# Altium footprint library PcbLib1.PcbLib: 11 footprints
Each footprint in its own frame and in the unit in brackets; x right, y up, seen from the top. Pads: shape width x height; smd on the part's side, far side on the other; paste and mask are expansions set on the pad; w line width, h text height; cw(c..) or ccw(c..) is an arc to the next point about the centre after c.
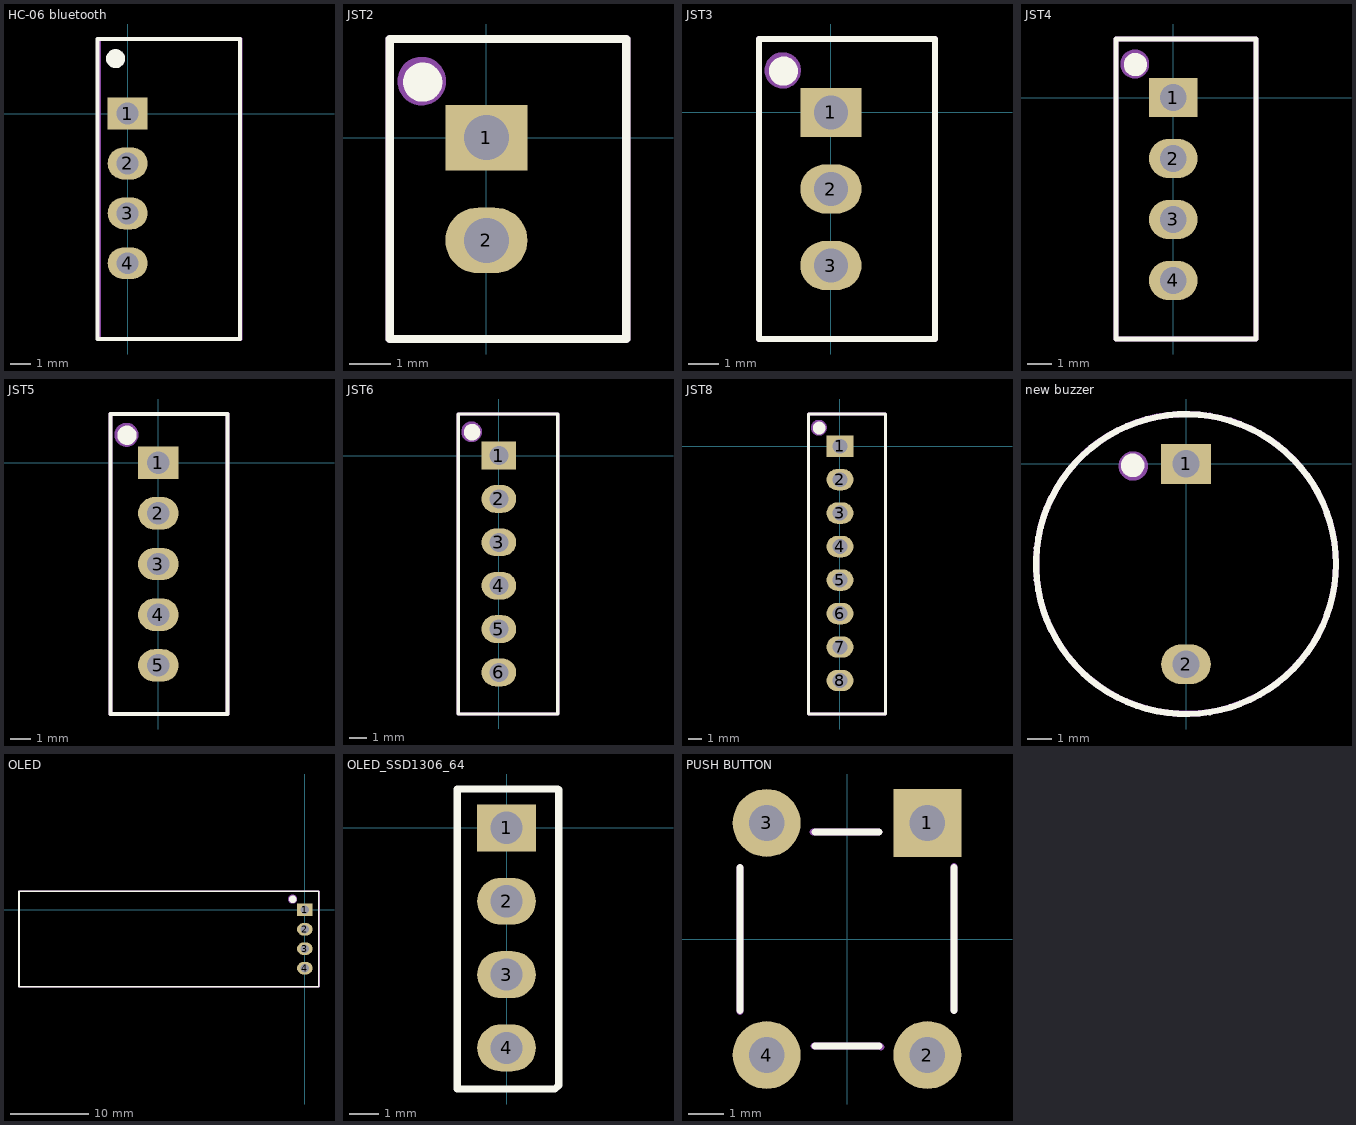
[diagram p0: the footprints below, top view; thin cyan lines are the x and y axes]

## HC-06 bluetooth [mm]
pads (4):
  rect 2x1.6 hole 1.1: 1(0,0)
  oval 2x1.6 hole 1.1: 2(0,-2.5) 3(0,-5) 4(0,-7.5)
Top Overlay:
  circle w0.5: c-0.6,2.75 r0.226
  lines w0.2: -1.5,-11.295 -1.5,3.735 5.625,3.735 5.625,-11.295 -1.5,-11.295
Mechanical 29:
  lines w0.2: -1.425,-11.295 -1.425,3.73 5.65,3.73 5.65,-11.295 -1.425,-11.295
3D body "User Library-zl262-4s_p2-54_l10-66_w2-54_h8-5.STEP": height 8.5, standoff -3, extent -1.295,-8.955 1.245,1.705
3D body "User Library-HC-06.STEP": height 47, standoff 4.25, extent -0.5,-11.15 5.6,3.85

## JST2 [mm]
pads (2):
  rect 2x1.6 hole 1.1: 1(0,0)
  oval 2x1.6 hole 1.1: 2(0,-2.5)
Top Overlay:
  circle w0.5: c-1.55,1.35 r0.226
  lines w0.2: -2.35,-4.9 -2.35,2.4 3.4,2.4 3.4,-4.9 -2.35,-4.9
Mechanical 29:
  circle w0.6: c-1.575,1.375 r0.292
  lines w0.2: -2.35,-4.9 3.4,-4.9 3.4,2.4 -2.35,2.4 -2.35,-4.9
  text ".Designator" at 0.875,-5.325 h1.3
3D body "B2B-XH-A.STEP": height 7.5, standoff -2.9, extent -2.375,-5 3.375,2.4

## JST3 [mm]
pads (3):
  rect 2x1.6 hole 1.1: 1(0,0)
  oval 2x1.6 hole 1.1: 2(0,-2.5) 3(0,-5)
Top Overlay:
  circle w0.5: c-1.55,1.35 r0.226
  lines w0.2: -2.35,-7.4 -2.35,2.4 3.4,2.4 3.4,-7.4 -2.35,-7.4
Mechanical 29:
  circle w0.6: c-1.575,1.375 r0.292
  lines w0.2: -2.35,-7.4 -2.35,2.4 3.4,2.4 3.4,-7.4 -2.35,-7.4
  text ".Designator" at 0.925,-7.025 h1.4
3D body "B3B-XH-A.STEP": height 7.5, standoff -2.9, extent -2.375,-7.5 3.375,2.4

## JST4 [mm]
pads (4):
  rect 2x1.6 hole 1.1: 1(0,0)
  oval 2x1.6 hole 1.1: 2(0,-2.5) 3(0,-5) 4(0,-7.5)
Top Overlay:
  circle w0.5: c-1.55,1.35 r0.226
  lines w0.2: -2.35,-9.9 -2.35,2.4 3.4,2.4 3.4,-9.9 -2.35,-9.9
Mechanical 29:
  circle w0.6: c-1.575,1.375 r0.292
  lines w0.2: -2.35,-9.9 -2.35,2.4 3.4,2.4 3.4,-9.9 -2.35,-9.9
  text ".Designator" at 0.925,-7.025 h1.6
3D body "B4B-XH-A.STEP": height 7.5, standoff -2.9, extent -2.375,-10 3.375,2.4

## JST5 [mm]
pads (5):
  rect 2x1.6 hole 1.1: 1(0,0)
  oval 2x1.6 hole 1.1: 2(0,-2.5) 3(0,-5) 4(0,-7.5) 5(0,-10)
Top Overlay:
  circle w0.5: c-1.55,1.35 r0.226
  lines w0.2: -2.35,-12.4 -2.35,2.4 3.4,2.4 3.4,-12.4 -2.35,-12.4
Mechanical 29:
  circle w0.6: c-1.575,1.375 r0.292
  lines w0.2: -2.35,-12.4 -2.35,2.4 3.4,2.4 3.4,-12.4 -2.35,-12.4
  text ".Designator" at 1.025,-11.525 h1.6
3D body "B5B-XH-AM.STEP": height 7.01, standoff -3.39, extent -2.375,-12.5 3.375,2.4

## JST6 [mm]
pads (6):
  rect 2x1.6 hole 1.1: 1(0,0)
  oval 2x1.6 hole 1.1: 2(0,-2.5) 3(0,-5) 4(0,-7.5) 5(0,-10) 6(0,-12.5)
Top Overlay:
  circle w0.5: c-1.55,1.35 r0.226
  lines w0.2: -2.35,-14.9 3.4,-14.9 3.4,-14.1 3.4,2.4 -2.35,2.4 -2.35,-14.9
Mechanical 29:
  circle w0.6: c-1.575,1.375 r0.292
  lines w0.2: -2.35,-14.9 3.4,-14.9 3.4,2.4 -2.35,2.4 -2.35,-14.9
  text ".Designator" at 0.925,-11.125 h1.8
3D body "B6B-XH-A.STEP": height 7.5, standoff -2.9, extent -2.375,-15 3.375,2.4

## JST8 [mm]
pads (8):
  rect 2x1.6 hole 1.1: 1(0,0)
  oval 2x1.6 hole 1.1: 2(0,-2.5) 3(0,-5) 4(0,-7.5) 5(0,-10) 6(0,-12.5) 7(0,-15) 8(0,-17.5)
Top Overlay:
  circle w0.5: c-1.55,1.35 r0.226
  lines w0.2: -2.35,-20 -2.35,2.4 3.4,2.4 3.4,-14.1 3.4,-20 -2.35,-20
Mechanical 29:
  circle w0.6: c-1.575,1.375 r0.292
  lines w0.2: -2.35,-20 -2.35,2.4 3.4,2.4 3.4,-20 -2.35,-20
  text ".Designator" at 1,-12.775 h2
3D body "B8B-XH-A.STEP": height 7.5, standoff -2.9, extent -2.375,-19.9 3.375,2.5

## new buzzer [mm]
pads (2):
  rect 2x1.6 hole 1.1: 1(0,0)
  oval 2x1.6 hole 1.1: 2(0,-8.075)
Top Overlay:
  circle w0.254: c0,-4.035 r6.04
  circle w0.5: c-2.15,-0.06 r0.226
Mechanical 29:
  circle w0.254: c0,-4.03 r6.04
  circle w0.6: c-2.125,-0.085 r0.292
  text ".Designator" at 0.31,-4.34 h1.52
3D body "Buzzer_Active.stp": height 9.6, standoff -2.6, extent -5.91,-10.005 5.94,1.845

## OLED [mm]
pads (4):
  rect 2x1.6 hole 1.1: 1(0,0)
  oval 2x1.6 hole 1.1: 2(0,-2.5) 3(0,-5) 4(0,-7.5)
Top Overlay:
  circle w0.5: c-1.55,1.35 r0.226
  lines w0.2: -36.735,-9.9 1.78,-9.9 1.78,2.4 -36.735,2.4 -36.735,-9.9
Mechanical 29:
  circle w0.6: c-1.575,1.375 r0.292
  lines w0.2: -36.735,-9.9 1.825,-9.9 1.825,2.4 -36.735,2.4 -36.735,-9.9
  text ".Designator" at 0.925,-7.025 h1.6
3D body "OLED_0.91_128x32.stp": height 6.51, standoff -4.95, extent -36.595,-9.67 1.705,2.43

## OLED_SSD1306_64 [mm]
pads (4):
  rect 2x1.6 hole 1.1: 1(0,0)
  oval 2x1.6 hole 1.1: 2(0,-2.5) 3(0,-5) 4(0,-7.5)
Top Overlay:
  lines w0.25: -1.675,1.325 -1.675,-8.9 1.65,-8.9 1.775,-8.775 1.775,-8.55 1.775,1.3 1.75,1.325 1.45,1.325 -1.625,1.325
3D body "User Library-128x64I2COLEDDisplayAdafruit.STEP": height 8.47, standoff -2.37, extent -25.63,-16.9 2.23,9.8

## PUSH BUTTON [mm]
pads (4):
  rect 1.9x1.9 hole 1: 1(2.25,3.25)
  round 1.9 hole 1: 2(2.25,-3.25) 3(-2.25,3.25) 4(-2.25,-3.25)
Top Overlay:
  lines w0.2: -3,-2 -3,2 ; -0.9,-3 0.9,-3 ; -0.9,3 0.9,3 ; 3,-2 3,2
Mechanical 29:
  lines w0.2: -3,-2.025 -3,2 ; -0.95,3 0.9,3 ; -0.925,-3 0.925,-3 0.95,-3.025 ; 3,-2 3,2.025
  text ".Designator" at 0.125,0 h1.52
3D body "User Library-FSM4JLH(1825910-5).STEP": height 7, standoff -1.51, extent -2.92,-3.898 3.07,3.9